# Altium schematic symbol library Power_Management.SchLib: 218 symbols (part 2 of 3)
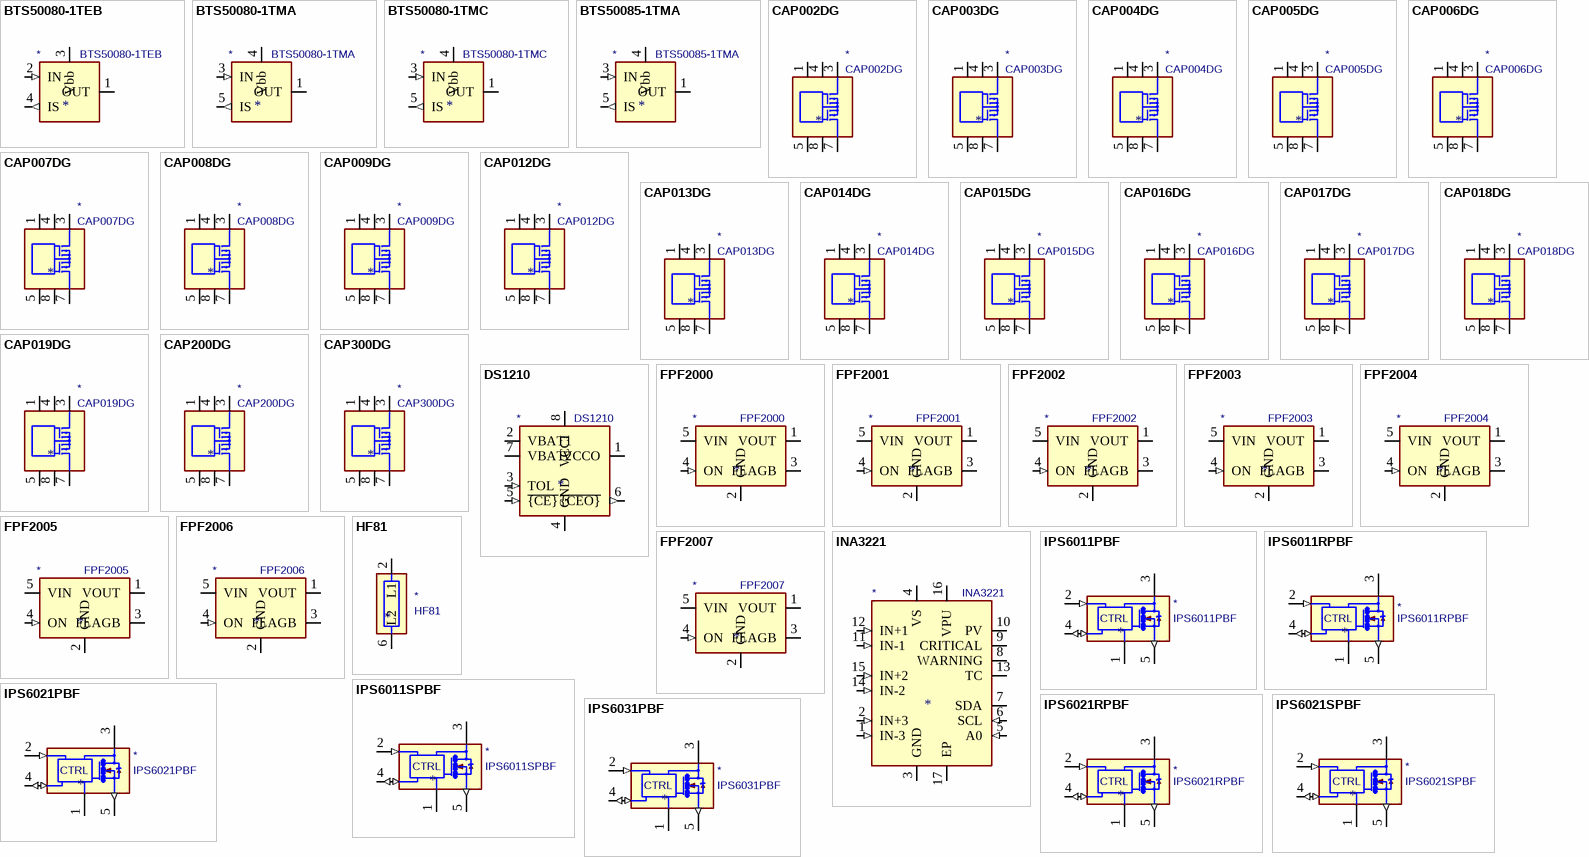
[diagram p6: symbols BTS50080-1TEB to IPS6031PBF]

## IPS6021RPBF
designator *  value IPS6021RPBF
ki_keywords: Intelligent Power Switch High Side MOSFET; ki_description: 39V, 32A, Intelligent Power Switch High Side, D-PAK 5pin; ki_fp_filters: TO?252*; Footprint: Package_TO_SOT_SMD:TO-252-5_TabPin3; Supplier: http://www.irf.com/product-info/datasheets/data/ips6021pbf.pdf
footprint TO-252-5_TabPin3
pins: 1 GND (power), 2 IN (in), 3 VCC (power), 4 DG (io), 5 OUT (out)
text: CTRL

## IPS6021SPBF
designator *  value IPS6021SPBF
ki_keywords: Intelligent Power Switch High Side MOSFET; ki_description: 39V, 32A, Intelligent Power Switch High Side, D2-PAK 5pin; ki_fp_filters: TO?263*; Footprint: Package_TO_SOT_SMD:TO-263-5_TabPin3; Supplier: http://www.irf.com/product-info/datasheets/data/ips6021pbf.pdf
footprint TO-263-5_TabPin3
pins: 1 GND (power), 2 IN (in), 3 VCC (power), 4 DG (io), 5 OUT (out)
text: CTRL

## IPS6031PBF
designator *  value IPS6031PBF
ki_keywords: Intelligent Power Switch High Side MOSFET; ki_description: 39V, 16A, Intelligent Power Switch High Side, TO-220-5; ki_fp_filters: TO?220*; Footprint: Package_TO_SOT_THT:TO-220-5_Vertical; Supplier: http://www.irf.com/product-info/datasheets/data/ips6031pbf.pdf
footprint TO-220-5_Vertical
pins: 1 GND (power), 2 IN (in), 3 VCC (power), 4 DG (io), 5 OUT (out)
text: CTRL

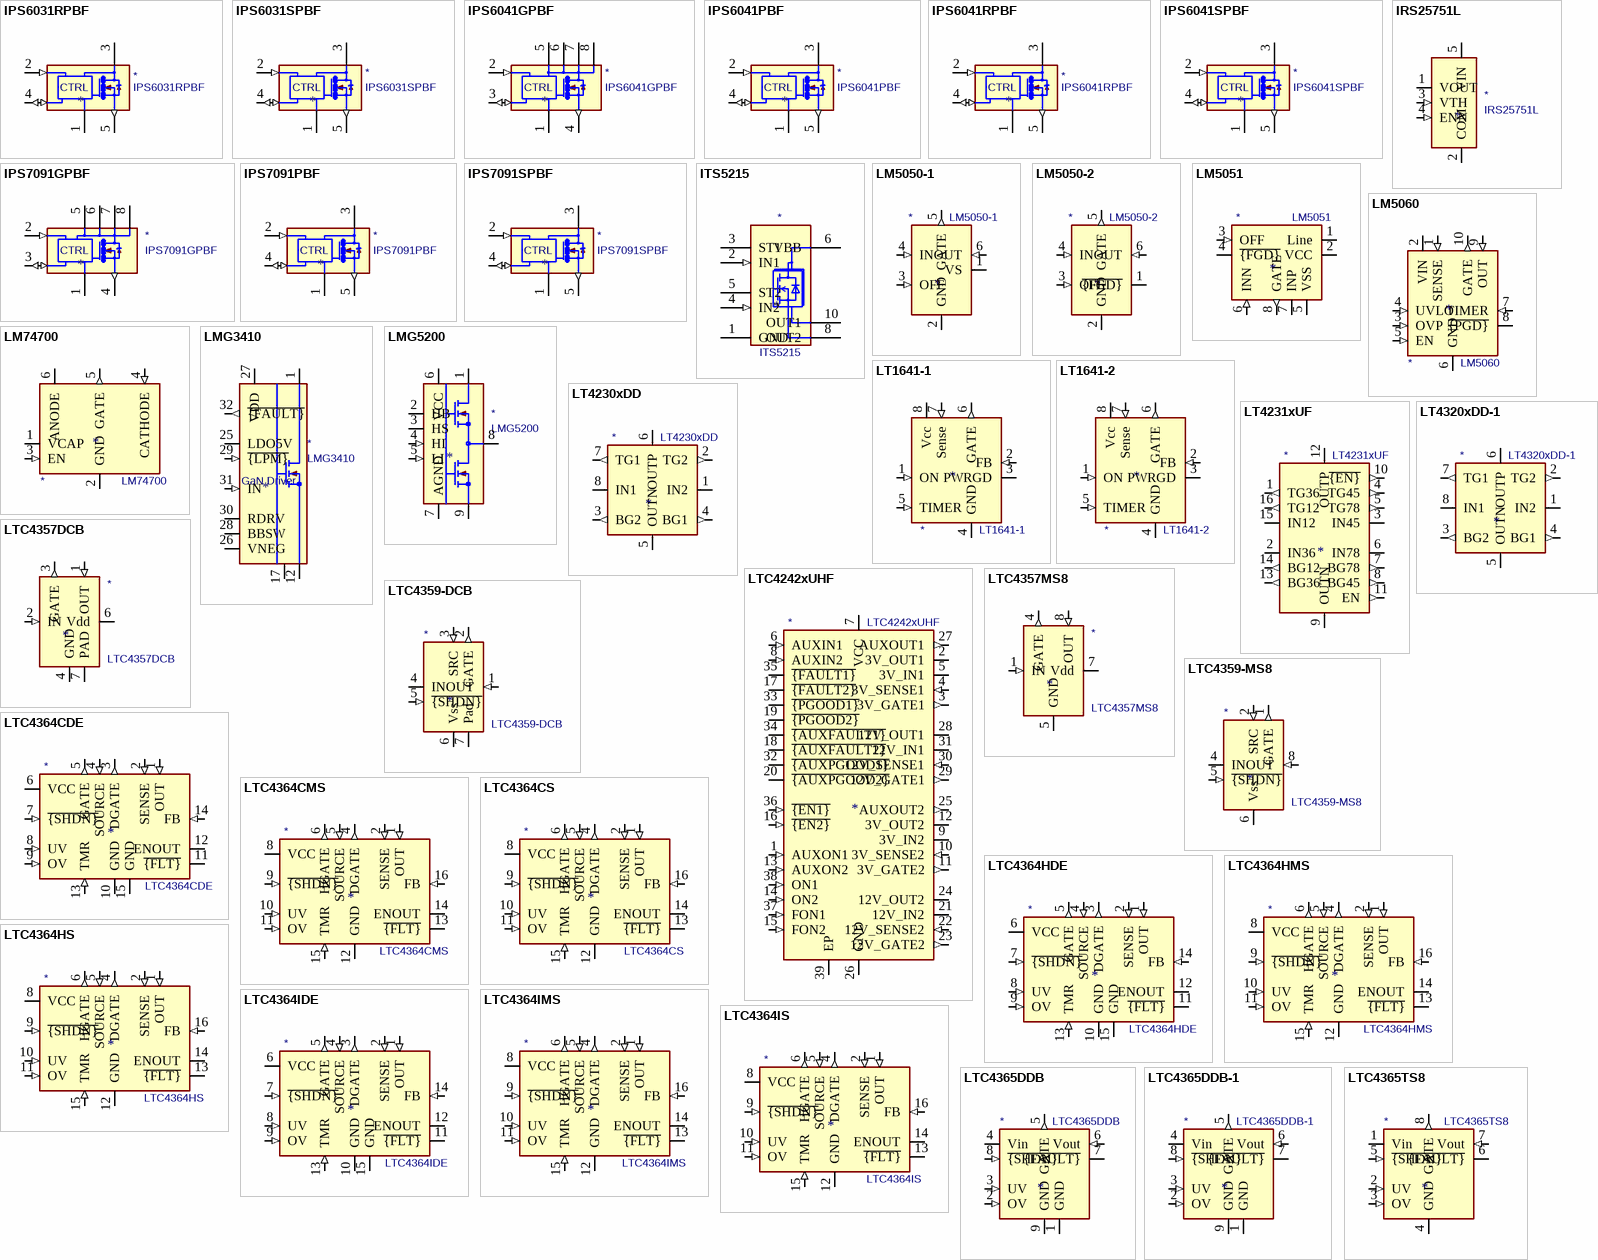
[diagram p3: symbols IPS6031RPBF to LTC4365TS8]

## IPS6031RPBF
designator *  value IPS6031RPBF
ki_keywords: Intelligent Power Switch High Side MOSFET; ki_description: 39V, 16A, Intelligent Power Switch High Side, D-PAK 5pin; ki_fp_filters: TO?252*; Footprint: Package_TO_SOT_SMD:TO-252-5_TabPin3; Supplier: http://www.irf.com/product-info/datasheets/data/ips6031pbf.pdf
footprint TO-252-5_TabPin3
pins: 1 GND (power), 2 IN (in), 3 VCC (power), 4 DG (io), 5 OUT (out)
text: CTRL

## IPS6031SPBF
designator *  value IPS6031SPBF
ki_keywords: Intelligent Power Switch High Side MOSFET; ki_description: 39V, 16A, Intelligent Power Switch High Side, D2-PAK 5pin; ki_fp_filters: TO?263*; Footprint: Package_TO_SOT_SMD:TO-263-5_TabPin3; Supplier: http://www.irf.com/product-info/datasheets/data/ips6031pbf.pdf
footprint TO-263-5_TabPin3
pins: 1 GND (power), 2 IN (in), 3 VCC (power), 4 DG (io), 5 OUT (out)
text: CTRL

## IPS6041GPBF
designator *  value IPS6041GPBF
ki_keywords: Intelligent Power Switch High Side MOSFET; ki_description: 39V, 5A, Intelligent Power Switch High Side, SO-8; ki_fp_filters: SOIC*3.9x4.9mm*P1.27mm*; Footprint: Package_SO:SOIC-8_3.9x4.9mm_P1.27mm; Supplier: http://www.irf.com/product-info/datasheets/data/ips6041pbf.pdf
footprint SOIC-8_3.9x4.9mm_P1.27mm
pins: 1 GND (power), 2 IN (in), 3 DG (io), 4 OUT (out), 5 VCC (power), 6 (power), 7 (power), 8 (power)
text: CTRL

## IPS6041PBF
designator *  value IPS6041PBF
ki_keywords: Intelligent Power Switch High Side MOSFET; ki_description: 39V, 5A, Intelligent Power Switch High Side, TO-220; ki_fp_filters: TO?220*; Footprint: Package_TO_SOT_THT:TO-220-5_Vertical; Supplier: http://www.irf.com/product-info/datasheets/data/ips6041pbf.pdf
footprint TO-220-5_Vertical
pins: 1 GND (power), 2 IN (in), 3 VCC (power), 4 DG (io), 5 OUT (out)
text: CTRL

## IPS6041RPBF
designator *  value IPS6041RPBF
ki_keywords: Intelligent Power Switch High Side MOSFET; ki_description: 39V, 5A, Intelligent Power Switch High Side, DPAK 5pin; ki_fp_filters: TO?252*; Footprint: Package_TO_SOT_SMD:TO-252-5_TabPin3; Supplier: http://www.irf.com/product-info/datasheets/data/ips6041pbf.pdf
footprint TO-252-5_TabPin3
pins: 1 GND (power), 2 IN (in), 3 VCC (power), 4 DG (io), 5 OUT (out)
text: CTRL

## IPS6041SPBF
designator *  value IPS6041SPBF
ki_keywords: Intelligent Power Switch High Side MOSFET; ki_description: 39V, 5A, Intelligent Power Switch High Side, D2PAK 5pin; ki_fp_filters: TO?263*; Footprint: Package_TO_SOT_SMD:TO-263-5_TabPin3; Supplier: http://www.irf.com/product-info/datasheets/data/ips6041pbf.pdf
footprint TO-263-5_TabPin3
pins: 1 GND (power), 2 IN (in), 3 VCC (power), 4 DG (io), 5 OUT (out)
text: CTRL

## IPS7091GPBF
designator *  value IPS7091GPBF
ki_keywords: Intelligent Power Switch High Side MOSFET; ki_description: 70V, 5A, Intelligent Power Switch High Side, D2-PAK 5pin; ki_fp_filters: SOIC*3.9x4.9mm*P1.27mm*; Footprint: Package_SO:SOIC-8_3.9x4.9mm_P1.27mm; Supplier: http://www.irf.com/product-info/datasheets/data/ips7091.pdf
footprint SOIC-8_3.9x4.9mm_P1.27mm
pins: 1 GND (power), 2 IN (in), 3 DG (io), 4 OUT (out), 5 VCC (power), 6 (power), 7 (power), 8 (power)
text: CTRL

## IPS7091PBF
designator *  value IPS7091PBF
ki_keywords: Intelligent Power Switch High Side MOSFET; ki_description: 70V, 5A, Intelligent Power Switch High Side, TO-220-5; ki_fp_filters: TO?220*; Footprint: Package_TO_SOT_THT:TO-220-5_Vertical; Supplier: http://www.irf.com/product-info/datasheets/data/ips7091.pdf
footprint TO-220-5_Vertical
pins: 1 GND (power), 2 IN (in), 3 VCC (power), 4 DG (io), 5 OUT (out)
text: CTRL

## IPS7091SPBF
designator *  value IPS7091SPBF
ki_keywords: Intelligent Power Switch High Side MOSFET; ki_description: 70V, 5A, Intelligent Power Switch High Side, D2-PAK 5pin; ki_fp_filters: TO?263*; Footprint: Package_TO_SOT_SMD:TO-263-5_TabPin3; Supplier: http://www.irf.com/product-info/datasheets/data/ips7091.pdf
footprint TO-263-5_TabPin3
pins: 1 GND (power), 2 IN (in), 3 VCC (power), 4 DG (io), 5 OUT (out)
text: CTRL

## IRS25751L
designator *  value IRS25751L
ki_keywords: start up; ki_description: High-Voltage Start-Up IC, 480V, SOT-23-5; ki_fp_filters: SOT?23*; Footprint: Package_TO_SOT_SMD:SOT-23-5; Supplier: https://www.infineon.com/dgdl/irs25751lpbf.pdf?fileId=5546d462533600a40153567b31da2837
footprint SOT-23-5
pins: 1 VOUT (power), 2 COM (power), 3 VTH (in), 4 ENN (in), 5 VIN (power)

## ITS5215
designator *  value ITS5215
ki_keywords: High_Side_Switch Power; ki_description: Smart Dual Channel High Side Powertrain Switch (90mOhm); ki_fp_filters: *PG?DSO*; Footprint: Package_SO:Infineon_PG-DSO-12-9_ThermalVias; Supplier: http://www.infineon.com/dgdl/Infineon-ITS5215L-DS-v01_01-en.pdf?fileId=db3a304412b407950112b428dba73e98
footprint Infineon_PG-DSO-12-9_ThermalVias
pins: 1 GND (power), 2 IN1 (in), 3 ST1 (oc), 4 IN2 (in), 5 ST2 (oc), 6 VBB (power), 7 NC (in) hidden, 8 OUT2 (oe), 9 NC (in) hidden, 10 OUT1 (oe), 11 NC (in) hidden, 12 VBB hidden, 13 VBB hidden

## LM5050-1
designator *  value LM5050-1
ki_keywords: positive high-side or-ing ideal-diode; ki_description: High side OR-ing FET controller, 5V to 75V operation, TSOT-23-6; ki_fp_filters: TSOT?23*; Footprint: Package_TO_SOT_SMD:TSOT-23-6; Supplier: http://www.ti.com/lit/ds/symlink/lm5050-1-q1.pdf
footprint TSOT-23-6
pins: 1 VS, 2 GND (power), 3 OFF (in), 4 IN (in), 5 GATE (out), 6 OUT (in)

## LM5050-2
designator *  value LM5050-2
ki_keywords: positive high-side or-ing ideal-diode; ki_description: High side OR-ing FET controller, 6V to 75V operation, TSOT-23-6; ki_fp_filters: TSOT?23*; Footprint: Package_TO_SOT_SMD:TSOT-23-6; Supplier: http://www.ti.com/lit/ds/symlink/lm5050-2.pdf
footprint TSOT-23-6
pins: 1 ~{{FGD}} (oc), 2 GND (power), 3 OFF (in), 4 IN (in), 5 GATE (out), 6 OUT (in)

## LM5051
designator *  value LM5051
ki_keywords: negative low-side or-ing ideal-diode; ki_description: Low side OR-ing FET controller, -6V to -100V operation; ki_fp_filters: SOIC*3.9x4.9mm*P1.27mm*; Footprint: Package_SO:SOIC-8_3.9x4.9mm_P1.27mm; Supplier: http://www.ti.com/lit/ds/symlink/lm5051.pdf
footprint SOIC-8_3.9x4.9mm_P1.27mm
pins: 1 Line (power), 2 VCC, 3 OFF (in), 4 ~{{FGD}} (oc), 5 VSS (power), 6 INN (in), 7 INP (power), 8 GATE (out)

## LM5060
designator *  value LM5060
ki_keywords: high-voltage mosfet-driver hot-swap; ki_description: High side protection controller, +5.5V to +65V operation, VSSOP-10 package; ki_fp_filters: *SOP*3x3mm*P0.5mm*; Footprint: Package_SO:MSOP-10_3x3mm_P0.5mm; Supplier: http://www.ti.com/lit/ds/symlink/lm5060.pdf
footprint MSOP-10_3x3mm_P0.5mm
pins: 1 SENSE (in), 2 VIN (power), 3 OVP (in), 4 UVLO (in), 5 EN (in), 6 GND (power), 7 TIMER (in), 8 ~{{PGD}} (oc), 9 OUT (in), 10 GATE (out)

## LM74700
designator *  value LM74700
ki_keywords: ideal-diode or-ing; ki_description: Low Iq reverse battery protection ideal diode controller, SOT-23-6; ki_fp_filters: SOT?23*; Footprint: Package_TO_SOT_SMD:SOT-23-6; Supplier: http://www.ti.com/lit/gpn/LM74700-Q1
footprint SOT-23-6
pins: 1 VCAP, 2 GND (power), 3 EN (in), 4 CATHODE (in), 5 GATE (out), 6 ANODE (power)

## LMG3410
designator *  value LMG3410
ki_keywords: N-Channel GaN MOSFET; ki_description: 600-V 12-A Integrated GaN Power Stage, RWH0032A; ki_fp_filters: Texas*RWH0032A*; Footprint: Package_DFN_QFN:Texas_RWH0032A_ThermalVias; Supplier: http://www.ti.com/lit/ds/snosd10c/snosd10c.pdf
footprint Texas_RWH0032A_ThermalVias
pins: 1, 2 hidden, 3 hidden, 4 hidden, 5 hidden, 6 hidden, 7 hidden, 8 hidden, 9 hidden, 10 hidden, 11 hidden, 12, 13 hidden, 14 hidden, 15 hidden, 16 hidden, 17, 18 hidden, 19 hidden, 20 hidden, 21 hidden, 22 hidden, 23 hidden, 24 hidden, 25 LDO5V (power), 26 VNEG (power), 27 VDD (power), 28 BBSW, 29 ~{{LPM}} (in), 30 RDRV, 31 IN (in), 32 ~{{FAULT}} (out), 33 hidden
text: GaN Driver

## LMG5200
designator *  value LMG5200
ki_keywords: Dual N-Channel GaN MOSFET; ki_description: 80-V, 10-A GaN Half-Bridge Power Stage, MOF0009A; ki_fp_filters: Texas*MOF0009A*; Footprint: Package_DFN_QFN:Texas_MOF0009A; Supplier: http://www.ti.com/lit/ds/symlink/lmg5200.pdf
footprint Texas_MOF0009A
pins: 1, 2 HB, 3 HS, 4 HI (in), 5 LI (in), 6 VCC (power), 7 AGND (power), 8, 9

## LT1641-1
designator *  value LT1641-1
ki_keywords: high-voltage hot-swap; ki_description: High voltage hot swap controller, +9V to +80V operation, with latching feature; ki_fp_filters: SOIC*3.9x4.9mm*P1.27mm*; Footprint: Package_SO:SOIC-8_3.9x4.9mm_P1.27mm; Supplier: https://www.analog.com/media/en/technical-documentation/data-sheets/164112fc.pdf
footprint SOIC-8_3.9x4.9mm_P1.27mm
pins: 1 ON (in), 2 FB (in), 3 PWRGD (oc), 4 GND (power), 5 TIMER (in), 6 GATE (out), 7 Sense (in), 8 Vcc (power)

## LT1641-2
designator *  value LT1641-2
ki_keywords: high-voltage hot-swap; ki_description: High voltage hot swap controller, +9V to +80V operation, with auto-retry feature; ki_fp_filters: SOIC*3.9x4.9mm*P1.27mm*; Footprint: Package_SO:SOIC-8_3.9x4.9mm_P1.27mm; Supplier: https://www.analog.com/media/en/technical-documentation/data-sheets/164112fc.pdf
footprint SOIC-8_3.9x4.9mm_P1.27mm
pins: 1 ON (in), 2 FB (in), 3 PWRGD (oc), 4 GND (power), 5 TIMER (in), 6 GATE (out), 7 Sense (in), 8 Vcc (power)

## LT4230xDD
designator *  value LT4230xDD
ki_keywords: diode bridge replacement; ki_description: Ideal Diode Bridge Controller, DC to 60Hz, DFN-8; ki_fp_filters: DFN*1EP*3x3mm*P0.5mm*; Footprint: Package_DFN_QFN:DFN-8-1EP_3x3mm_P0.5mm_EP1.65x2.38mm; Supplier: https://www.analog.com/media/en/technical-documentation/data-sheets/4320fb.pdf
footprint DFN-8-1EP_3x3mm_P0.5mm_EP1.65x2.38mm
pins: 1 IN2 (power), 2 TG2 (out), 3 BG2 (out), 4 BG1 (out), 5 OUTN (power), 6 OUTP (power), 7 TG1 (out), 8 IN1 (power), 9 OUTN hidden

## LT4231xUF
designator *  value LT4231xUF
ki_keywords: LTPoE++ dual diode bridge replacement; ki_description: PoE Ideal Diode Bridge Controller, QFN-16; ki_fp_filters: QFN*1EP*4x4mm*P0.65mm*; Footprint: Package_DFN_QFN:QFN-16-1EP_4x4mm_P0.65mm_EP2.15x2.15mm; Supplier: https://www.analog.com/media/en/technical-documentation/data-sheets/4321f.pdf
footprint QFN-16-1EP_4x4mm_P0.65mm_EP2.15x2.15mm
pins: 1 TG36 (out), 2 IN36 (power), 3 IN45 (power), 4 TG45 (out), 5 TG78 (out), 6 IN78 (power), 7 BG78 (out), 8 BG45 (out), 9 OUTN (power), 10 ~{{EN}} (out), 11 EN (out), 12 OUTP (power), 13 BG36 (out), 14 BG12 (out), 15 IN12 (power), 16 TG12 (out), 17 OUTN hidden

## LT4320xDD-1
designator *  value LT4320xDD-1
ki_keywords: diode bridge replacement; ki_description: Ideal Diode Bridge Controller, DC to 600Hz, DFN-8; ki_fp_filters: DFN*1EP*3x3mm*P0.5mm*; Footprint: Package_DFN_QFN:DFN-8-1EP_3x3mm_P0.5mm_EP1.65x2.38mm; Supplier: https://www.analog.com/media/en/technical-documentation/data-sheets/4320fb.pdf
footprint DFN-8-1EP_3x3mm_P0.5mm_EP1.65x2.38mm
pins: 1 IN2 (power), 2 TG2 (out), 3 BG2 (out), 4 BG1 (out), 5 OUTN (power), 6 OUTP (power), 7 TG1 (out), 8 IN1 (power), 9 OUTN hidden

## LTC4242xUHF
designator *  value LTC4242xUHF
ki_keywords: Dual-Slot PCIe; ki_description: Hot-Swap Power Controller, QFN-38; ki_fp_filters: QFN*1EP*5x7mm*P0.5mm*; Footprint: Package_DFN_QFN:QFN-38-1EP_5x7mm_P0.5mm_EP3.15x5.15mm; Supplier: https://www.analog.com/media/en/technical-documentation/data-sheets/4242f.pdf
footprint QFN-38-1EP_5x7mm_P0.5mm_EP3.15x5.15mm
pins: 1 AUXON1 (in), 2 3V_OUT1 (oc), 3 3V_GATE1 (out), 4 3V_SENSE1 (in), 5 3V_IN1 (power), 6 AUXIN1 (in), 7 VCC (power), 8 AUXIN2 (in), 9 3V_IN2 (power), 10 3V_SENSE2 (in), 11 3V_GATE2 (out), 12 3V_OUT2 (oc), 13 AUXON2 (in), 14 ON2 (in), 15 FON2 (in), 16 ~{{EN2}} (in), 17 ~{{FAULT2}} (oc), 18 ~{{AUXFAULT2}} (oc), 19 ~{{PGOOD2}} (oc), 20 ~{{AUXPGOOD2}} (oc), 21 12V_IN2 (power), 22 12V_SENSE2 (in), 23 12V_GATE2 (out), 24 12V_OUT2 (oc), 25 AUXOUT2 (out), 26 GND (power), 27 AUXOUT1 (out), 28 12V_OUT1 (oc), 29 12V_GATE1 (out), 30 12V_SENSE1 (in), 31 12V_IN1 (power), 32 ~{{AUXPGOOD1}} (oc), 33 ~{{PGOOD1}} (oc), 34 ~{{AUXFAULT1}} (oc), 35 ~{{FAULT1}} (oc), 36 ~{{EN1}} (in), 37 FON1 (in), 38 ON1 (in), 39 EP (power)

## LTC4357DCB
designator *  value LTC4357DCB
ki_keywords: ideal-diode or-ing; ki_description: Ideal diode controller, 9-80V operation, DFN-6 package; ki_fp_filters: DFN*1EP*3.2mm*P0.5mm*; Supplier: https://www.analog.com/media/en/technical-documentation/data-sheets/4357fd.pdf
pins: 1 OUT (in), 2 IN (in), 3 GATE (out), 4 GND (power), 5 NC (in) hidden, 6 Vdd (power), 7 PAD (power)

## LTC4357MS8
designator *  value LTC4357MS8
ki_keywords: ideal-diode or-ing; ki_description: Ideal diode controller, 9-80V operation, MSOP-8 package; ki_fp_filters: MSOP*3x3mm*P0.65mm*; Footprint: Package_SO:MSOP-8_3x3mm_P0.65mm; Supplier: https://www.analog.com/media/en/technical-documentation/data-sheets/4357fd.pdf
footprint MSOP-8_3x3mm_P0.65mm
pins: 1 IN (in), 2 NC (in) hidden, 3 NC (in) hidden, 4 GATE (out), 5 GND (power), 6 NC (in) hidden, 7 Vdd (power), 8 OUT (in)

## LTC4359-DCB
designator *  value LTC4359-DCB
ki_keywords: ideal-diode or-ing reverse-protection; ki_description: Ideal diode controller with reverse input protection, DFN-6 package; ki_fp_filters: DFN*1EP*3x2mm*P0.65mm*; Supplier: https://www.analog.com/media/en/technical-documentation/data-sheets/ltc4359.pdf
pins: 1 OUT (in), 2 GATE (out), 3 SRC (in), 4 IN (power), 5 ~{{SHDN}} (in), 6 Vss (power), 7 Pad (power)

## LTC4359-MS8
designator *  value LTC4359-MS8
ki_keywords: ideal-diode or-ing reverse-protection; ki_description: Ideal diode controller with reverse input protection, MSOP-8 package; ki_fp_filters: MSOP*3x3mm*P0.65mm*; Footprint: Package_SO:MSOP-8_3x3mm_P0.65mm; Supplier: https://www.analog.com/media/en/technical-documentation/data-sheets/ltc4359.pdf
footprint MSOP-8_3x3mm_P0.65mm
pins: 1 GATE (out), 2 SRC (in), 3 NC (in) hidden, 4 IN (power), 5 ~{{SHDN}} (in), 6 Vss (power), 7 NC (in) hidden, 8 OUT (in)

## LTC4364CDE
designator *  value LTC4364CDE
ki_keywords: ideal-diode or-ing reverse-protection undervoltage overvoltage surge-stopper; ki_description: Surge stopper with ideal diode, UV and OV protection, -40V to +80V operation, DFN-14 package, 0°C to +40°C; ki_fp_filters: DFN*3x4mm*P0.5mm*; Footprint: Package_DFN_QFN:DFN-14-1EP_3x4mm_P0.5mm_EP1.7x3.3mm; Supplier: https://www.analog.com/media/en/technical-documentation/data-sheets/436412f.pdf
footprint DFN-14-1EP_3x4mm_P0.5mm_EP1.7x3.3mm
pins: 1 OUT (in), 2 SENSE (in), 3 DGATE (out), 4 SOURCE (in), 5 GATE (out), 6 VCC (power), 7 ~{{SHDN}} (in), 8 UV (in), 9 OV (in), 10 GND (power), 11 ~{{FLT}} (oc), 12 ENOUT (oc), 13 TMR (in), 14 FB (in), 15 GND (power)

## LTC4364CMS
designator *  value LTC4364CMS
ki_keywords: ideal-diode or-ing reverse-protection undervoltage overvoltage surge-stopper; ki_description: Surge stopper with ideal diode, UV and OV protection, -40V to +80V operation, MSOP-16 package, 0°C to +40°C; ki_fp_filters: MSOP*3x4mm*P0.5mm*; Footprint: Package_SO:MSOP-16_3x4mm_P0.5mm; Supplier: https://www.analog.com/media/en/technical-documentation/data-sheets/436412f.pdf
footprint MSOP-16_3x4mm_P0.5mm
pins: 1 OUT (in), 2 SENSE (in), 3 NC (in) hidden, 4 DGATE (out), 5 SOURCE (in), 6 HGATE (out), 7 NC (in) hidden, 8 VCC (power), 9 ~{{SHDN}} (in), 10 UV (in), 11 OV (in), 12 GND (power), 13 ~{{FLT}} (oc), 14 ENOUT (oc), 15 TMR (in), 16 FB (in)

## LTC4364CS
designator *  value LTC4364CS
ki_keywords: ideal-diode or-ing reverse-protection undervoltage overvoltage surge-stopper; ki_description: Surge stopper with ideal diode, UV and OV protection -40V to +80V in SOIC-16 package, 0°C to +40°C; ki_fp_filters: SOIC*3.9x9.9mm*P1.27mm*; Footprint: Package_SO:SOIC-16_3.9x9.9mm_P1.27mm; Supplier: https://www.analog.com/media/en/technical-documentation/data-sheets/436412f.pdf
footprint SOIC-16_3.9x9.9mm_P1.27mm
pins: 1 OUT (in), 2 SENSE (in), 3 NC (in) hidden, 4 DGATE (out), 5 SOURCE (in), 6 HGATE (out), 7 NC (in) hidden, 8 VCC (power), 9 ~{{SHDN}} (in), 10 UV (in), 11 OV (in), 12 GND (power), 13 ~{{FLT}} (oc), 14 ENOUT (oc), 15 TMR (in), 16 FB (in)

## LTC4364HDE
designator *  value LTC4364HDE
ki_keywords: surge overvoltage undervoltage reverse-polarity protection diode ORing MOSFET driver; ki_description: Surge stopper with ideal diode, UV and OV protection -40V to +80V in DFN-14 package, -40°C to +125°C; ki_fp_filters: DFN*3x4mm*P0.5mm*; Footprint: Package_DFN_QFN:DFN-14-1EP_3x4mm_P0.5mm_EP1.7x3.3mm; Supplier: https://www.analog.com/media/en/technical-documentation/data-sheets/436412f.pdf
footprint DFN-14-1EP_3x4mm_P0.5mm_EP1.7x3.3mm
pins: 1 OUT (in), 2 SENSE (in), 3 DGATE (out), 4 SOURCE (in), 5 GATE (out), 6 VCC (power), 7 ~{{SHDN}} (in), 8 UV (in), 9 OV (in), 10 GND (power), 11 ~{{FLT}} (oc), 12 ENOUT (oc), 13 TMR (in), 14 FB (in), 15 GND (power)

## LTC4364HMS
designator *  value LTC4364HMS
ki_keywords: surge overvoltage undervoltage reverse-polarity protection diode ORing MOSFET driver; ki_description: Surge stopper with ideal diode, UV and OV protection -40V to +80V in MSOP-16 package, -40°C to +125°C; ki_fp_filters: MSOP*3x4mm*P0.5mm*; Footprint: Package_SO:MSOP-16_3x4mm_P0.5mm; Supplier: https://www.analog.com/media/en/technical-documentation/data-sheets/436412f.pdf
footprint MSOP-16_3x4mm_P0.5mm
pins: 1 OUT (in), 2 SENSE (in), 3 NC (in) hidden, 4 DGATE (out), 5 SOURCE (in), 6 HGATE (out), 7 NC (in) hidden, 8 VCC (power), 9 ~{{SHDN}} (in), 10 UV (in), 11 OV (in), 12 GND (power), 13 ~{{FLT}} (oc), 14 ENOUT (oc), 15 TMR (in), 16 FB (in)

## LTC4364HS
designator *  value LTC4364HS
ki_keywords: surge overvoltage undervoltage reverse-polarity protection diode ORing MOSFET driver; ki_description: Surge stopper with ideal diode, UV and OV protection -40V to +80V in SOIC-16 package, -40°C to +125°C; ki_fp_filters: SOIC*3.9x9.9mm*P1.27mm*; Footprint: Package_SO:SOIC-16_3.9x9.9mm_P1.27mm; Supplier: https://www.analog.com/media/en/technical-documentation/data-sheets/436412f.pdf
footprint SOIC-16_3.9x9.9mm_P1.27mm
pins: 1 OUT (in), 2 SENSE (in), 3 NC (in) hidden, 4 DGATE (out), 5 SOURCE (in), 6 HGATE (out), 7 NC (in) hidden, 8 VCC (power), 9 ~{{SHDN}} (in), 10 UV (in), 11 OV (in), 12 GND (power), 13 ~{{FLT}} (oc), 14 ENOUT (oc), 15 TMR (in), 16 FB (in)

## LTC4364IDE
designator *  value LTC4364IDE
ki_keywords: surge overvoltage undervoltage reverse-polarity protection diode ORing MOSFET driver; ki_description: Surge stopper with ideal diode, UV and OV protection -40V to +80V in DFN-14 package, -40°C to +85°C; ki_fp_filters: DFN*3x4mm*P0.5mm*; Footprint: Package_DFN_QFN:DFN-14-1EP_3x4mm_P0.5mm_EP1.7x3.3mm; Supplier: https://www.analog.com/media/en/technical-documentation/data-sheets/436412f.pdf
footprint DFN-14-1EP_3x4mm_P0.5mm_EP1.7x3.3mm
pins: 1 OUT (in), 2 SENSE (in), 3 DGATE (out), 4 SOURCE (in), 5 GATE (out), 6 VCC (power), 7 ~{{SHDN}} (in), 8 UV (in), 9 OV (in), 10 GND (power), 11 ~{{FLT}} (oc), 12 ENOUT (oc), 13 TMR (in), 14 FB (in), 15 GND (power)

## LTC4364IMS
designator *  value LTC4364IMS
ki_keywords: surge overvoltage undervoltage reverse-polarity protection diode ORing MOSFET driver; ki_description: Surge stopper with ideal diode, UV and OV protection -40V to +80V in MSOP-16 package, -40°C to +85°C; ki_fp_filters: MSOP*3x4mm*P0.5mm*; Footprint: Package_SO:MSOP-16_3x4mm_P0.5mm; Supplier: https://www.analog.com/media/en/technical-documentation/data-sheets/436412f.pdf
footprint MSOP-16_3x4mm_P0.5mm
pins: 1 OUT (in), 2 SENSE (in), 3 NC (in) hidden, 4 DGATE (out), 5 SOURCE (in), 6 HGATE (out), 7 NC (in) hidden, 8 VCC (power), 9 ~{{SHDN}} (in), 10 UV (in), 11 OV (in), 12 GND (power), 13 ~{{FLT}} (oc), 14 ENOUT (oc), 15 TMR (in), 16 FB (in)

## LTC4364IS
designator *  value LTC4364IS
ki_keywords: surge overvoltage undervoltage reverse-polarity protection diode ORing MOSFET driver; ki_description: Surge stopper with ideal diode, UV and OV protection -40V to +80V in SOIC-16 package, -40°C to +85°C; ki_fp_filters: SOIC*3.9x9.9mm*P1.27mm*; Footprint: Package_SO:SOIC-16_3.9x9.9mm_P1.27mm; Supplier: https://www.analog.com/media/en/technical-documentation/data-sheets/436412f.pdf
footprint SOIC-16_3.9x9.9mm_P1.27mm
pins: 1 OUT (in), 2 SENSE (in), 3 NC (in) hidden, 4 DGATE (out), 5 SOURCE (in), 6 HGATE (out), 7 NC (in) hidden, 8 VCC (power), 9 ~{{SHDN}} (in), 10 UV (in), 11 OV (in), 12 GND (power), 13 ~{{FLT}} (oc), 14 ENOUT (oc), 15 TMR (in), 16 FB (in)

## LTC4365DDB
designator *  value LTC4365DDB
ki_keywords: overvoltage undervoltage reverse-polarity protection; ki_description: Overvoltage, Undervoltage and Reverse Supply Protection Controller, 3x2mm DFN-8 package, 50Hz/60Hz noise rejection; ki_fp_filters: DFN*1EP*2x3mm*P0.5mm*; Footprint: Package_DFN_QFN:DFN-8-1EP_2x3mm_P0.5mm_EP0.61x2.2mm; Supplier: https://www.analog.com/media/en/technical-documentation/data-sheets/4365fa.pdf
footprint DFN-8-1EP_2x3mm_P0.5mm_EP0.61x2.2mm
pins: 1 GND (power), 2 OV (in), 3 UV (in), 4 Vin (power), 5 GATE (out), 6 Vout (in), 7 ~{{FAULT}} (oc), 8 ~{{SHDN}} (in), 9 GND (power)

## LTC4365DDB-1
designator *  value LTC4365DDB-1
ki_keywords: overvoltage undervoltage reverse-polarity protection; ki_description: Overvoltage, Undervoltage and Reverse Supply Protection Controller, 3x2mm DFN-8 package, 1ms fault recovery; ki_fp_filters: DFN*1EP*2x3mm*P0.5mm*; Footprint: Package_DFN_QFN:DFN-8-1EP_2x3mm_P0.5mm_EP0.61x2.2mm; Supplier: https://www.analog.com/media/en/technical-documentation/data-sheets/4365fa.pdf
footprint DFN-8-1EP_2x3mm_P0.5mm_EP0.61x2.2mm
pins: 1 GND (power), 2 OV (in), 3 UV (in), 4 Vin (power), 5 GATE (out), 6 Vout (in), 7 ~{{FAULT}} (oc), 8 ~{{SHDN}} (in), 9 GND (power)

## LTC4365TS8
designator *  value LTC4365TS8
ki_keywords: overvoltage undervoltage reverse-polarity protection; ki_description: Overvoltage, Undervoltage and Reverse Supply Protection Controller, TSOT23-8 package, 50Hz/60Hz noise rejection; ki_fp_filters: *SOT?23*; Supplier: https://www.analog.com/media/en/technical-documentation/data-sheets/4365fa.pdf
pins: 1 Vin (power), 2 UV (in), 3 OV (in), 4 GND (power), 5 ~{{SHDN}} (in), 6 ~{{FAULT}} (oc), 7 Vout (in), 8 GATE (out)

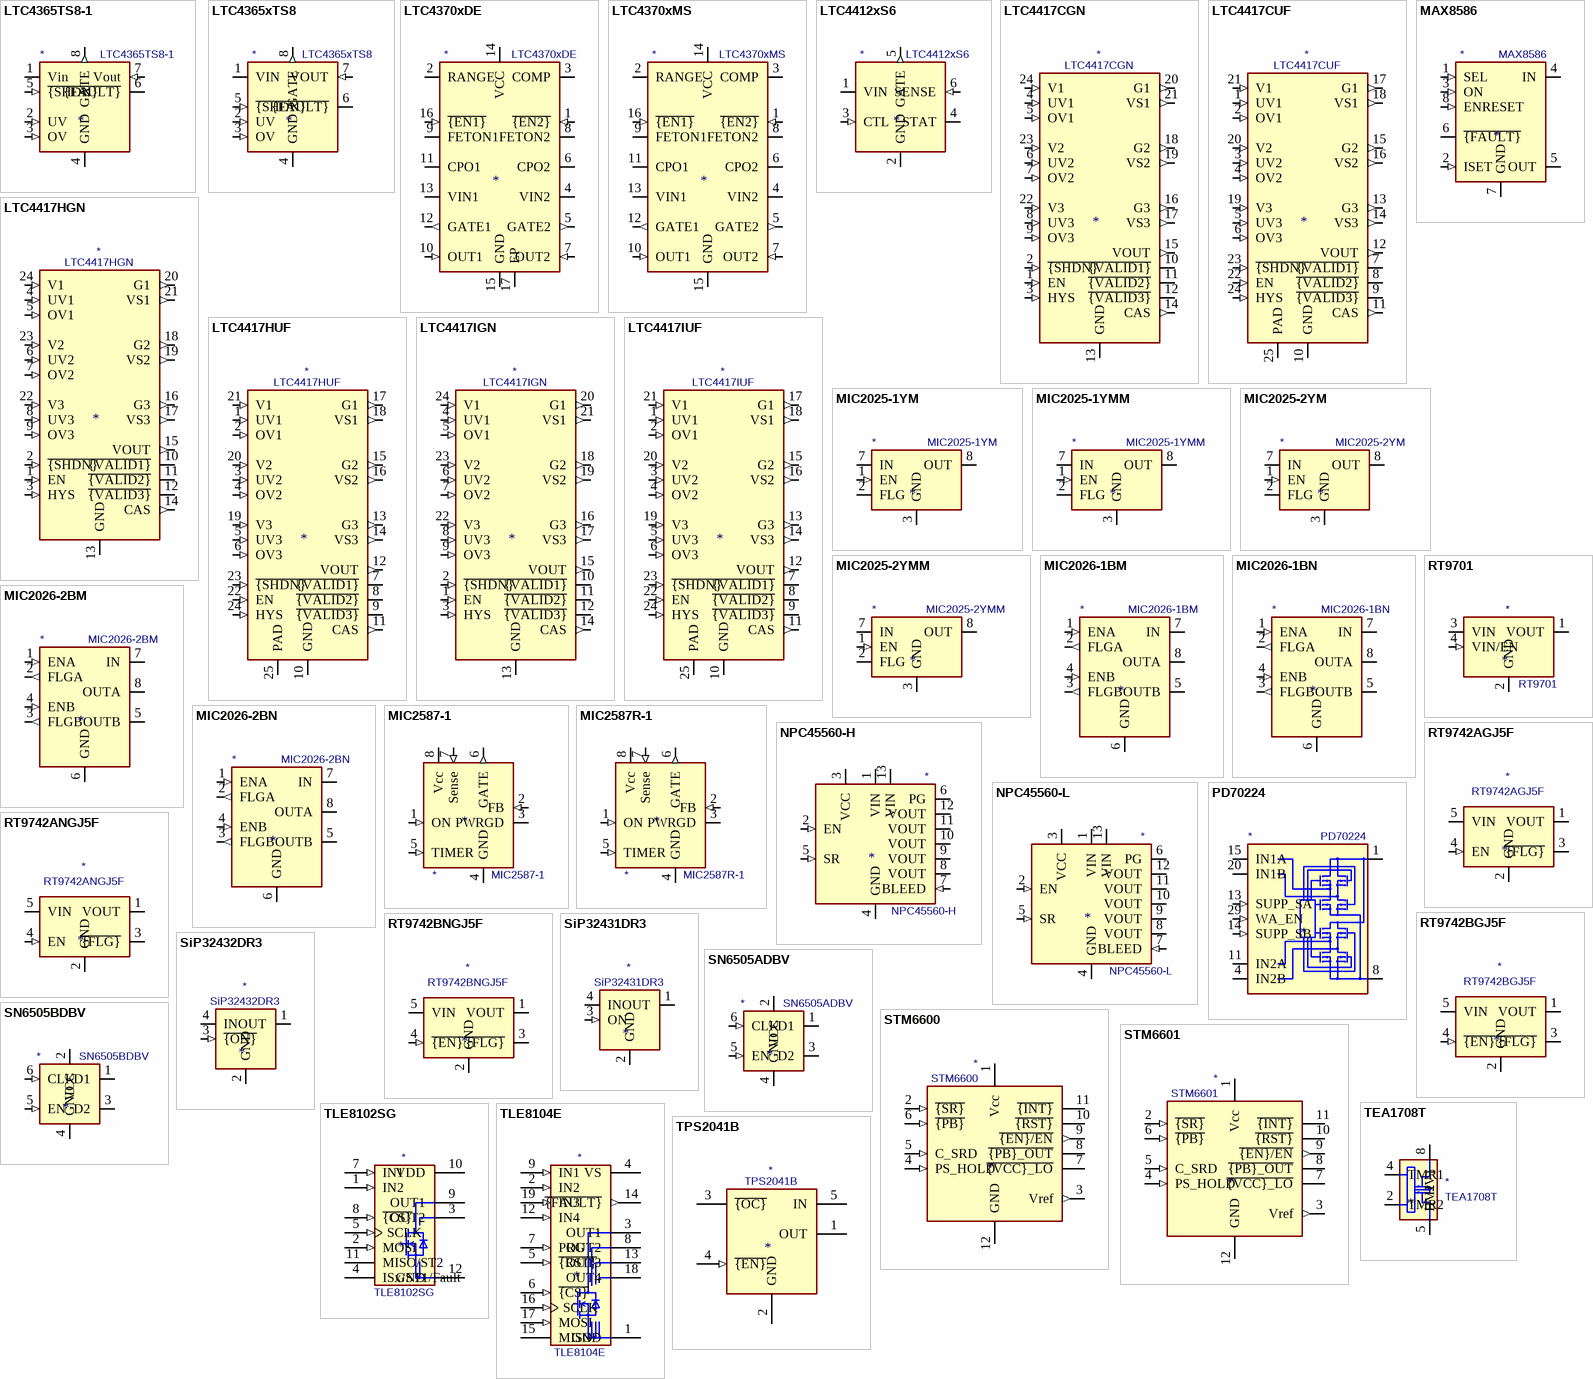
[diagram p4: symbols LTC4365TS8-1 to TPS2041B]

## LTC4365TS8-1
designator *  value LTC4365TS8-1
ki_keywords: overvoltage undervoltage reverse-polarity protection; ki_description: Overvoltage, Undervoltage and Reverse Supply Protection Controller, TSOT23-8 package, 1ms fault recovery; ki_fp_filters: *SOT?23*; Supplier: https://www.analog.com/media/en/technical-documentation/data-sheets/4365fa.pdf
pins: 1 Vin (power), 2 UV (in), 3 OV (in), 4 GND (power), 5 ~{{SHDN}} (in), 6 ~{{FAULT}} (oc), 7 Vout (in), 8 GATE (out)

## LTC4365xTS8
designator *  value LTC4365xTS8
ki_keywords: overvoltage undervoltage reverse-polarity protection; ki_description: Overvoltage, Undervoltage and Reverse Supply Protection Controller, 50Hz/60Hz noise rejection, TSOT-23-8; ki_fp_filters: TSOT?23*; Footprint: Package_TO_SOT_SMD:TSOT-23-8; Supplier: https://www.analog.com/media/en/technical-documentation/data-sheets/4365fa.pdf
footprint TSOT-23-8
pins: 1 VIN (power), 2 UV (in), 3 OV (in), 4 GND (power), 5 ~{{SHDN}} (in), 6 ~{{FAULT}} (oc), 7 VOUT (in), 8 GATE (out)

## LTC4370xDE
designator *  value LTC4370xDE
ki_keywords: ideal-diode or-ing current sharing load balancing; ki_description: OR Controller Current Sharing Controller N-Channel 2:1, DFN-16; ki_fp_filters: DFN*1EP*3x4mm*P0.45mm*; Footprint: Package_DFN_QFN:DFN-16-1EP_3x4mm_P0.45mm_EP1.7x3.3mm; Supplier: https://www.analog.com/media/en/technical-documentation/data-sheets/4370f.pdf
footprint DFN-16-1EP_3x4mm_P0.45mm_EP1.7x3.3mm
pins: 1 ~{{EN2}} (in), 2 RANGE, 3 COMP, 4 VIN2 (power), 5 GATE2 (out), 6 CPO2, 7 OUT2 (in), 8 FETON2 (oc), 9 FETON1 (oc), 10 OUT1 (in), 11 CPO1, 12 GATE1 (out), 13 VIN1 (power), 14 VCC (power), 15 GND (power), 16 ~{{EN1}} (in), 17 EP

## LTC4370xMS
designator *  value LTC4370xMS
ki_keywords: ideal-diode or-ing current sharing load balancing; ki_description: OR Controller Current Sharing Controller N-Channel 2:1, MSOP-16; ki_fp_filters: MSOP*3x4mm*P0.5mm*; Footprint: Package_SO:MSOP-16_3x4mm_P0.5mm; Supplier: https://www.analog.com/media/en/technical-documentation/data-sheets/4370f.pdf
footprint MSOP-16_3x4mm_P0.5mm
pins: 1 ~{{EN2}} (in), 2 RANGE, 3 COMP, 4 VIN2 (power), 5 GATE2 (out), 6 CPO2, 7 OUT2 (in), 8 FETON2 (oc), 9 FETON1 (oc), 10 OUT1 (in), 11 CPO1, 12 GATE1 (out), 13 VIN1 (power), 14 VCC (power), 15 GND (power), 16 ~{{EN1}} (in)

## LTC4412xS6
designator *  value LTC4412xS6
ki_keywords: ideal-diode or-ing; ki_description: Low Loss PowerPath Controller, TSOT-23-6; ki_fp_filters: TSOT?23*; Footprint: Package_TO_SOT_SMD:TSOT-23-6; Supplier: https://www.analog.com/media/en/technical-documentation/data-sheets/4412fb.pdf
footprint TSOT-23-6
pins: 1 VIN (power), 2 GND (power), 3 CTL (in), 4 STAT (oc), 5 GATE (out), 6 SENSE (in)

## LTC4417CGN
designator *  value LTC4417CGN
ki_keywords: switch power FET sequence; ki_description: Prioritized PowerPath Controller, Selects Highest Priority Supply from Three Inputs, SSOP; ki_fp_filters: SSOP-24*3.9x8.7mm*P0.635mm*; Footprint: Package_SO:SSOP-24_3.9x8.7mm_P0.635mm; Supplier: https://www.analog.com/media/en/technical-documentation/data-sheets/4417f.pdf
footprint SSOP-24_3.9x8.7mm_P0.635mm
pins: 1 EN (in), 2 ~{{SHDN}} (in), 3 HYS (in), 4 UV1 (in), 5 OV1 (in), 6 UV2 (in), 7 OV2 (in), 8 UV3 (in), 9 OV3 (in), 10 ~{{VALID1}} (oc), 11 ~{{VALID2}} (oc), 12 ~{{VALID3}} (oc), 13 GND (power), 14 CAS (out), 15 VOUT (out), 16 G3 (out), 17 VS3 (out), 18 G2 (out), 19 VS2 (out), 20 G1 (out), 21 VS1 (out), 22 V3 (in), 23 V2 (in), 24 V1 (in)

## LTC4417CUF
designator *  value LTC4417CUF
ki_keywords: switch power FET sequence; ki_description: Prioritized PowerPath Controller, Selects Highest Priority Supply from Three Inputs, QFN; ki_fp_filters: QFN*4x4mm*P0.5mm*; Footprint: Package_DFN_QFN:QFN-24-1EP_4x4mm_P0.5mm_EP2.6x2.6mm; Supplier: https://www.analog.com/media/en/technical-documentation/data-sheets/4417f.pdf
footprint QFN-24-1EP_4x4mm_P0.5mm_EP2.6x2.6mm
pins: 1 UV1 (in), 2 OV1 (in), 3 UV2 (in), 4 OV2 (in), 5 UV3 (in), 6 OV3 (in), 7 ~{{VALID1}} (oc), 8 ~{{VALID2}} (oc), 9 ~{{VALID3}} (oc), 10 GND (power), 11 CAS (out), 12 VOUT (out), 13 G3 (out), 14 VS3 (out), 15 G2 (out), 16 VS2 (out), 17 G1 (out), 18 VS1 (out), 19 V3 (in), 20 V2 (in), 21 V1 (in), 22 EN (in), 23 ~{{SHDN}} (in), 24 HYS (in), 25 PAD (power)

## LTC4417HGN
designator *  value LTC4417HGN
ki_keywords: switch power FET sequence; ki_description: Prioritized PowerPath Controller, Selects Highest Priority Supply from Three Inputs, –40°C to 125°C, SSOP; ki_fp_filters: SSOP-24*3.9x8.7mm*P0.635mm*; Footprint: Package_SO:SSOP-24_3.9x8.7mm_P0.635mm; Supplier: https://www.analog.com/media/en/technical-documentation/data-sheets/4417f.pdf
footprint SSOP-24_3.9x8.7mm_P0.635mm
pins: 1 EN (in), 2 ~{{SHDN}} (in), 3 HYS (in), 4 UV1 (in), 5 OV1 (in), 6 UV2 (in), 7 OV2 (in), 8 UV3 (in), 9 OV3 (in), 10 ~{{VALID1}} (oc), 11 ~{{VALID2}} (oc), 12 ~{{VALID3}} (oc), 13 GND (power), 14 CAS (out), 15 VOUT (out), 16 G3 (out), 17 VS3 (out), 18 G2 (out), 19 VS2 (out), 20 G1 (out), 21 VS1 (out), 22 V3 (in), 23 V2 (in), 24 V1 (in)

## LTC4417HUF
designator *  value LTC4417HUF
ki_keywords: switch power FET sequence; ki_description: Prioritized PowerPath Controller, Selects Highest Priority Supply from Three Inputs, –40°C to 125°C, QFN; ki_fp_filters: QFN*4x4mm*P0.5mm*; Footprint: Package_DFN_QFN:QFN-24-1EP_4x4mm_P0.5mm_EP2.6x2.6mm; Supplier: https://www.analog.com/media/en/technical-documentation/data-sheets/4417f.pdf
footprint QFN-24-1EP_4x4mm_P0.5mm_EP2.6x2.6mm
pins: 1 UV1 (in), 2 OV1 (in), 3 UV2 (in), 4 OV2 (in), 5 UV3 (in), 6 OV3 (in), 7 ~{{VALID1}} (oc), 8 ~{{VALID2}} (oc), 9 ~{{VALID3}} (oc), 10 GND (power), 11 CAS (out), 12 VOUT (out), 13 G3 (out), 14 VS3 (out), 15 G2 (out), 16 VS2 (out), 17 G1 (out), 18 VS1 (out), 19 V3 (in), 20 V2 (in), 21 V1 (in), 22 EN (in), 23 ~{{SHDN}} (in), 24 HYS (in), 25 PAD (power)

## LTC4417IGN
designator *  value LTC4417IGN
ki_keywords: switch power FET sequence; ki_description: Prioritized PowerPath Controller, Selects Highest Priority Supply from Three Inputs, –40°C to 85°C, SSOP; ki_fp_filters: SSOP-24*3.9x8.7mm*P0.635mm*; Footprint: Package_SO:SSOP-24_3.9x8.7mm_P0.635mm; Supplier: https://www.analog.com/media/en/technical-documentation/data-sheets/4417f.pdf
footprint SSOP-24_3.9x8.7mm_P0.635mm
pins: 1 EN (in), 2 ~{{SHDN}} (in), 3 HYS (in), 4 UV1 (in), 5 OV1 (in), 6 UV2 (in), 7 OV2 (in), 8 UV3 (in), 9 OV3 (in), 10 ~{{VALID1}} (oc), 11 ~{{VALID2}} (oc), 12 ~{{VALID3}} (oc), 13 GND (power), 14 CAS (out), 15 VOUT (out), 16 G3 (out), 17 VS3 (out), 18 G2 (out), 19 VS2 (out), 20 G1 (out), 21 VS1 (out), 22 V3 (in), 23 V2 (in), 24 V1 (in)

## LTC4417IUF
designator *  value LTC4417IUF
ki_keywords: switch power FET sequence; ki_description: Prioritized PowerPath Controller, Selects Highest Priority Supply from Three Inputs, –40°C to 85°C, QFN; ki_fp_filters: QFN*4x4mm*P0.5mm*; Footprint: Package_DFN_QFN:QFN-24-1EP_4x4mm_P0.5mm_EP2.6x2.6mm; Supplier: https://www.analog.com/media/en/technical-documentation/data-sheets/4417f.pdf
footprint QFN-24-1EP_4x4mm_P0.5mm_EP2.6x2.6mm
pins: 1 UV1 (in), 2 OV1 (in), 3 UV2 (in), 4 OV2 (in), 5 UV3 (in), 6 OV3 (in), 7 ~{{VALID1}} (oc), 8 ~{{VALID2}} (oc), 9 ~{{VALID3}} (oc), 10 GND (power), 11 CAS (out), 12 VOUT (out), 13 G3 (out), 14 VS3 (out), 15 G2 (out), 16 VS2 (out), 17 G1 (out), 18 VS1 (out), 19 V3 (in), 20 V2 (in), 21 V1 (in), 22 EN (in), 23 ~{{SHDN}} (in), 24 HYS (in), 25 PAD (power)

## MAX8586
designator *  value MAX8586
ki_keywords: 1-channel USB current limiting power switch; ki_description: Single 1.2A USB Current Limiting Switch; ki_fp_filters: DFN?8?1EP*3x3mm*P0.65mm*EP1.55x2.4mm*; Footprint: Package_DFN_QFN:DFN-8-1EP_3x3mm_P0.65mm_EP1.55x2.4mm; Supplier: https://datasheets.maximintegrated.com/en/ds/MAX8586.pdf
footprint DFN-8-1EP_3x3mm_P0.65mm_EP1.55x2.4mm
pins: 1 SEL (in), 2 ISET (in), 3 ON (in), 4 IN (power), 5 OUT (power), 6 ~{{FAULT}} (oc), 7 GND (power), 8 ENRESET (in), 9 GND hidden

## MIC2025-1YM
designator *  value MIC2025-1YM
ki_keywords: mosfet distribution; ki_description: Single-channel, high side, power distribution switch, 2.7V-5.5V, Active High Output, SOIC-8; ki_fp_filters: SOIC*3.9x4.9mm*P1.27mm*; Footprint: Package_SO:SOIC-8_3.9x4.9mm_P1.27mm; Supplier: https://ww1.microchip.com/downloads/en/DeviceDoc/MIC2025-2075-Single-Channel-Power-Distribution-Switch-DS20006030A.pdf
footprint SOIC-8_3.9x4.9mm_P1.27mm
pins: 1 EN (in), 2 FLG (oc), 3 GND (power), 4 NC (in) hidden, 5 NC (in) hidden, 6 OUT hidden, 7 IN (power), 8 OUT (power)

## MIC2025-1YMM
designator *  value MIC2025-1YMM
ki_keywords: mosfet distribution; ki_description: Single-channel, high side, power distribution switch, 2.7V-5.5V, Active High Output, MSOP-8; ki_fp_filters: MSOP*3x3mm*P0.65mm*; Footprint: Package_SO:MSOP-8_3x3mm_P0.65mm; Supplier: https://ww1.microchip.com/downloads/en/DeviceDoc/MIC2025-2075-Single-Channel-Power-Distribution-Switch-DS20006030A.pdf
footprint MSOP-8_3x3mm_P0.65mm
pins: 1 EN (in), 2 FLG (oc), 3 GND (power), 4 NC (in) hidden, 5 NC (in) hidden, 6 OUT hidden, 7 IN (power), 8 OUT (power)

## MIC2025-2YM
designator *  value MIC2025-2YM
ki_keywords: mosfet distribution; ki_description: Single-channel, high side, power distribution switch, 2.7V-5.5V, Active Low Output, SOIC-8; ki_fp_filters: SOIC*3.9x4.9mm*P1.27mm*; Footprint: Package_SO:SOIC-8_3.9x4.9mm_P1.27mm; Supplier: https://ww1.microchip.com/downloads/en/DeviceDoc/MIC2025-2075-Single-Channel-Power-Distribution-Switch-DS20006030A.pdf
footprint SOIC-8_3.9x4.9mm_P1.27mm
pins: 1 EN (in), 2 FLG (oc), 3 GND (power), 4 NC (in) hidden, 5 NC (in) hidden, 6 OUT hidden, 7 IN (power), 8 OUT (power)

## MIC2025-2YMM
designator *  value MIC2025-2YMM
ki_keywords: mosfet distribution; ki_description: Single-channel, high side, power distribution switch, 2.7V-5.5V, Active Low Output, MSOP-8; ki_fp_filters: MSOP*3x3mm*P0.65mm*; Footprint: Package_SO:MSOP-8_3x3mm_P0.65mm; Supplier: https://ww1.microchip.com/downloads/en/DeviceDoc/MIC2025-2075-Single-Channel-Power-Distribution-Switch-DS20006030A.pdf
footprint MSOP-8_3x3mm_P0.65mm
pins: 1 EN (in), 2 FLG (oc), 3 GND (power), 4 NC (in) hidden, 5 NC (in) hidden, 6 OUT hidden, 7 IN (power), 8 OUT (power)

## MIC2026-1BM
designator *  value MIC2026-1BM
ki_keywords: mosfet distribution; ki_description: Dual-channel, high side, power distribution switch, 2.7V-5.5V, Active High Output, SOIC-8; ki_fp_filters: SOIC*3.9x4.9mm*P1.27mm* DIP*W7.62mm*; Supplier: http://ww1.microchip.com/downloads/en/DeviceDoc/mic2026.pdf
pins: 1 ENA (in), 2 FLGA (out), 3 FLGB (out), 4 ENB (in), 5 OUTB (power), 6 GND (power), 7 IN (power), 8 OUTA (power)

## MIC2026-1BN
designator *  value MIC2026-1BN
ki_keywords: mosfet distribution; ki_description: Dual-channel, high side, power distribution switch, 2.7V-5.5V, Active High Output, DIP-8; ki_fp_filters: SOIC*3.9x4.9mm*P1.27mm* DIP*W7.62mm*; Supplier: http://ww1.microchip.com/downloads/en/DeviceDoc/mic2026.pdf
pins: 1 ENA (in), 2 FLGA (out), 3 FLGB (out), 4 ENB (in), 5 OUTB (power), 6 GND (power), 7 IN (power), 8 OUTA (power)

## MIC2026-2BM
designator *  value MIC2026-2BM
ki_keywords: mosfet distribution; ki_description: Dual-channel, high side, power distribution switch, 2.7V-5.5V, Active Low Output, SOIC-8; ki_fp_filters: SOIC*3.9x4.9mm*P1.27mm* DIP*W7.62mm*; Supplier: http://ww1.microchip.com/downloads/en/DeviceDoc/mic2026.pdf
pins: 1 ENA (in), 2 FLGA (out), 3 FLGB (out), 4 ENB (in), 5 OUTB (power), 6 GND (power), 7 IN (power), 8 OUTA (power)

## MIC2026-2BN
designator *  value MIC2026-2BN
ki_keywords: mosfet distribution; ki_description: Dual-channel, high side, power distribution switch, 2.7V-5.5V, Active Low Output, DIP-8; ki_fp_filters: SOIC*3.9x4.9mm*P1.27mm* DIP*W7.62mm*; Supplier: http://ww1.microchip.com/downloads/en/DeviceDoc/mic2026.pdf
pins: 1 ENA (in), 2 FLGA (out), 3 FLGB (out), 4 ENB (in), 5 OUTB (power), 6 GND (power), 7 IN (power), 8 OUTA (power)

## MIC2587-1
designator *  value MIC2587-1
ki_keywords: power switch FET driver; ki_description: Positive high voltage hot swap controller +10V to +80V with latched operation; ki_fp_filters: SOIC*3.9x4.9mm*P1.27mm*; Footprint: Package_SO:SOIC-8_3.9x4.9mm_P1.27mm; Supplier: http://ww1.microchip.com/downloads/en/DeviceDoc/mic2587-87r.pdf
footprint SOIC-8_3.9x4.9mm_P1.27mm
pins: 1 ON (in), 2 FB (in), 3 PWRGD (oc), 4 GND (power), 5 TIMER (in), 6 GATE (out), 7 Sense (in), 8 Vcc (power)

## MIC2587R-1
designator *  value MIC2587R-1
ki_keywords: power switch FET driver; ki_description: Positive high voltage hot swap controller +10V to +80V with auto-retry operation; ki_fp_filters: SOIC*3.9x4.9mm*P1.27mm*; Footprint: Package_SO:SOIC-8_3.9x4.9mm_P1.27mm; Supplier: http://ww1.microchip.com/downloads/en/DeviceDoc/mic2587-87r.pdf
footprint SOIC-8_3.9x4.9mm_P1.27mm
pins: 1 ON (in), 2 FB (in), 3 PWRGD (oc), 4 GND (power), 5 TIMER (in), 6 GATE (out), 7 Sense (in), 8 Vcc (power)

## NPC45560-H
designator *  value NPC45560-H
ki_keywords: load switch; ki_description: Controlled load switch with low Ron, DFN-12; ki_fp_filters: DFN*1EP?3x3mm?P0.5mm*; Footprint: Package_DFN_QFN:DFN-12-1EP_3x3mm_P0.5mm_EP2.05x2.86mm; Supplier: http://www.onsemi.com/pub/Collateral/NCP45560-D.PDF
footprint DFN-12-1EP_3x3mm_P0.5mm_EP2.05x2.86mm
pins: 1 VIN (power), 2 EN (in), 3 VCC (power), 4 GND (power), 5 SR (in), 6 PG (oc), 7 BLEED (in), 8 VOUT, 9 VOUT, 10 VOUT, 11 VOUT, 12 VOUT (power), 13 VIN (power)

## NPC45560-L
designator *  value NPC45560-L
ki_keywords: load switch; ki_description: Controlled load switch with low Ron, DFN-12; ki_fp_filters: *DFN*12*; Footprint: Package_DFN_QFN:DFN-12-1EP_3x3mm_P0.5mm_EP2.05x2.86mm; Supplier: http://www.onsemi.com/pub/Collateral/NCP45560-D.PDF
footprint DFN-12-1EP_3x3mm_P0.5mm_EP2.05x2.86mm
pins: 1 VIN (power), 2 EN (in), 3 VCC (power), 4 GND (power), 5 SR (in), 6 PG (oc), 7 BLEED (in), 8 VOUT, 9 VOUT, 10 VOUT, 11 VOUT, 12 VOUT (power), 13 VIN (power)

## PD70224
designator *  value PD70224
ki_keywords: dual ideal diode bridge; ki_description: Ideal Dual Diode Bridge, QFN-40; ki_fp_filters: Microsemi*QFN*6x8mm*P0.5mm*; Footprint: Package_DFN_QFN:Microsemi_QFN-40-32-2EP_6x8mm_P0.5mm; Supplier: https://www.microsemi.com/document-portal/doc_download/131677-pd70224-data-sheet
footprint Microsemi_QFN-40-32-2EP_6x8mm_P0.5mm
pins: 1 (power), 2 hidden, 3 hidden, 4 IN2B, 5 IN2B hidden, 6 IN2B hidden, 7 IN2B hidden, 8 (power), 9 hidden, 10 hidden, 11 IN2A, 12 IN2A hidden, 13 SUPP_SA (in), 14 SUPP_SB (in), 15 IN1A, 16 IN1A hidden, 17 hidden, 18 hidden, 19 hidden, 20 IN1B, 21 IN1B hidden, 22 IN1B hidden, 23 IN1B hidden, 24 hidden, 25 hidden, 26 hidden, 27 IN1A hidden, 28 IN1A hidden, 29 WA_EN (in), 30 NC (in) hidden, 31 IN2A hidden, 32 IN2A hidden, 33 hidden, 34 hidden

## RT9701
designator *  value RT9701
ki_keywords: power distribution switch; ki_description: 100 milliohm power distribution switch, SOT-23-5; ki_fp_filters: SOT?23*; Supplier: https://www.richtek.com/Products/Power%20Switch/RT9701?sc_lang=en
pins: 1 VOUT (power), 2 GND (power), 3 VIN (power), 4 VIN/EN (in), 5 VOUT hidden

## RT9742AGJ5F
designator *  value RT9742AGJ5F
ki_keywords: Power Switch; ki_description: 3A, Discharge, Active High EN, TSOT-23-5; ki_fp_filters: TSOT?23*; Footprint: Package_TO_SOT_SMD:TSOT-23-5; Supplier: https://www.richtek.com/assets/product_file/RT9742/DS9742-10.pdf
footprint TSOT-23-5
pins: 1 VOUT (power), 2 GND (power), 3 ~{{FLG}} (oc), 4 EN (in), 5 VIN (power)

## RT9742ANGJ5F
designator *  value RT9742ANGJ5F
ki_keywords: Power Switch; ki_description: 3A, Active High EN, TSOT-23-5; ki_fp_filters: TSOT?23*; Footprint: Package_TO_SOT_SMD:TSOT-23-5; Supplier: https://www.richtek.com/assets/product_file/RT9742/DS9742-10.pdf
footprint TSOT-23-5
pins: 1 VOUT (power), 2 GND (power), 3 ~{{FLG}} (oc), 4 EN (in), 5 VIN (power)

## RT9742BGJ5F
designator *  value RT9742BGJ5F
ki_keywords: Power Switch; ki_description: 3A, Discharge, Active Low EN, TSOT-23-5; ki_fp_filters: TSOT?23*; Footprint: Package_TO_SOT_SMD:TSOT-23-5; Supplier: https://www.richtek.com/assets/product_file/RT9742/DS9742-10.pdf
footprint TSOT-23-5
pins: 1 VOUT (power), 2 GND (power), 3 ~{{FLG}} (oc), 4 ~{{EN}} (in), 5 VIN (power)

## RT9742BNGJ5F
designator *  value RT9742BNGJ5F
ki_keywords: Power Switch; ki_description: 3A, Active Low EN, TSOT-23-5; ki_fp_filters: TSOT?23*; Footprint: Package_TO_SOT_SMD:TSOT-23-5; Supplier: https://www.richtek.com/assets/product_file/RT9742/DS9742-10.pdf
footprint TSOT-23-5
pins: 1 VOUT (power), 2 GND (power), 3 ~{{FLG}} (oc), 4 ~{{EN}} (in), 5 VIN (power)

## SiP32431DR3
designator *  value SiP32431DR3
ki_keywords: Load switch; ki_description: 10 pA, Ultra Low Leakage and Quiescent Current, Load Switch with Reverse Blocking, High Enable, SC-70-6; ki_fp_filters: *SC?70*; Footprint: Package_TO_SOT_SMD:SOT-363_SC-70-6; Supplier: http://www.vishay.com.hk/docs/66597/sip32431.pdf
footprint SOT-363_SC-70-6
pins: 1 OUT, 2 GND (power), 3 ON (in), 4 IN, 5 GND hidden, 6 NC (in) hidden

## SiP32432DR3
designator *  value SiP32432DR3
ki_keywords: Load switch; ki_description: 10 pA, Ultra Low Leakage and Quiescent Current, Load Switch with Reverse Blocking, Low Enable, SC-70-6; ki_fp_filters: *SC?70*; Footprint: Package_TO_SOT_SMD:SOT-363_SC-70-6; Supplier: http://www.vishay.com.hk/docs/66597/sip32431.pdf
footprint SOT-363_SC-70-6
pins: 1 OUT, 2 GND (power), 3 ~{{ON}} (in), 4 IN, 5 GND hidden, 6 NC (in) hidden

## SN6505ADBV
designator *  value SN6505ADBV
ki_keywords: Transformer Drivers; ki_description: Low Noise, 1A, Transformer Drivers for Isolated Power Supplies, 160 kHz, SOT-23-6; ki_fp_filters: SOT?23*; Footprint: Package_TO_SOT_SMD:SOT-23-6; Supplier: http://www.ti.com/lit/ds/symlink/sn6505b.pdf
footprint SOT-23-6
pins: 1 D1 (oc), 2 VCC (power), 3 D2 (oc), 4 GND (power), 5 EN (in), 6 CLK (in)

## SN6505BDBV
designator *  value SN6505BDBV
ki_keywords: Transformer Drivers; ki_description: Low Noise, 1A, Transformer Drivers for Isolated Power Supplies, 420 kHz, SOT-23-6; ki_fp_filters: SOT?23*; Footprint: Package_TO_SOT_SMD:SOT-23-6; Supplier: http://www.ti.com/lit/ds/symlink/sn6505b.pdf
footprint SOT-23-6
pins: 1 D1 (oc), 2 VCC (power), 3 D2 (oc), 4 GND (power), 5 EN (in), 6 CLK (in)

## STM6600
designator *  value STM6600
ki_keywords: push-button-controller low-power; ki_description: Smart push-button on/off controller, power-on lockout, Low Power, 1.6-5.5V, TDFN12; ki_fp_filters: TDFN*2x3mm*P0.5mm*; Footprint: Package_DFN_QFN:TDFN-12_2x3mm_P0.5mm; Supplier: http://www.st.com/resource/en/datasheet/stm6600.pdf
footprint TDFN-12_2x3mm_P0.5mm
pins: 1 Vcc (power), 2 ~{{SR}} (in), 3 Vref (out), 4 PS_HOLD (in), 5 C_SRD (in), 6 ~{{PB}} (in), 7 ~{{VCC}_LO} (oc), 8 ~{{PB}_OUT} (oc), 9 ~{{EN}/EN} (out), 10 ~{{RST}} (oc), 11 ~{{INT}} (oc), 12 GND (power)

## STM6601
designator *  value STM6601
ki_keywords: push-button-controller low-power; ki_description: Smart push-button on/off controller, power-on lockout, Low Power, 1.6-5.5V, TDFN12; ki_fp_filters: TDFN*2x3mm*P0.5mm*; Footprint: Package_DFN_QFN:TDFN-12_2x3mm_P0.5mm; Supplier: http://www.st.com/resource/en/datasheet/stm6600.pdf
footprint TDFN-12_2x3mm_P0.5mm
pins: 1 Vcc (power), 2 ~{{SR}} (in), 3 Vref (out), 4 PS_HOLD (in), 5 C_SRD (in), 6 ~{{PB}} (in), 7 ~{{VCC}_LO} (oc), 8 ~{{PB}_OUT} (oc), 9 ~{{EN}/EN} (out), 10 ~{{RST}} (oc), 11 ~{{INT}} (oc), 12 GND (power)

## TEA1708T
designator *  value TEA1708T
ki_keywords: X capacitor discharge; ki_description: GreenChip X capacitor discharge IC, SOIC-8; ki_fp_filters: SOIC*3.9x4.9mm*P1.27mm*; Footprint: Package_SO:SOIC-8_3.9x4.9mm_P1.27mm; Supplier: https://www.nxp.com/docs/en/data-sheet/TEA1708T.pdf
footprint SOIC-8_3.9x4.9mm_P1.27mm
pins: 1 NC (in) hidden, 2 TMR2, 3 NC (in) hidden, 4 TMR1, 5 HV2, 6 NC (in) hidden, 7 NC (in) hidden, 8 HV1

## TLE8102SG
designator *  value TLE8102SG
ki_keywords: Low_Side_Switch Power; ki_description: Smart Dual Channel Powertrain Switch 2x8A (max 360mOhm); ki_fp_filters: *PG?DSO*; Footprint: Package_SO:Infineon_PG-DSO-12-11_ThermalVias; Supplier: http://www.infineon.com/dgdl/Infineon-TLE8102SG-DS-v01_05-en.pdf?fileId=db3a304319c6f18c0119c8384bf90042
footprint Infineon_PG-DSO-12-11_ThermalVias
pins: 1 IN2 (in), 2 MOSI (in), 3 OUT2 (oc), 4 ISx/ST1/Fault, 5 SCLK (in), 6 GND hidden, 7 IN1 (in), 8 ~{{CS}} (in), 9 OUT1 (oc), 10 VDD (power), 11 MISO/ST2, 12 GND (power), 13 GND hidden

## TLE8104E
designator *  value TLE8104E
ki_keywords: Low_Side_Switch Power; ki_description: Smart Quad Channel Powertrain Switch 4x3A (In=1A, Ilim=3A, Ron=320mOhm); ki_fp_filters: *PG?DSO*; Footprint: Package_SO:Infineon_PG-DSO-20-30_ThermalVias; Supplier: http://www.infineon.com/dgdl/Infineon-TLE8104E-DS-v01_04-en.pdf?fileId=db3a304318f3fe2901190401cfda7f25
footprint Infineon_PG-DSO-20-30_ThermalVias
pins: 1 GND (power), 2 IN2 (in), 3 OUT1 (oc), 4 VS (power), 5 ~{{RST}} (in), 6 ~{{CS}} (in), 7 PRG (in), 8 OUT2 (oc), 9 IN1 (in), 10 GND hidden, 11 GND hidden, 12 IN4 (in), 13 OUT3 (oc), 14 ~{{FAULT}} (out), 15 MISO, 16 SCLK (in), 17 MOSI (in), 18 OUT4 (oc), 19 IN3 (in), 20 GND hidden, 21 GND hidden

## TPS2041B
designator *  value TPS2041B
ki_keywords: 1-chanel power-distribution USB; ki_description: Single power-distribution switcher; ki_fp_filters: SOT?23*; Footprint: Package_TO_SOT_SMD:SOT-23-5; Supplier: http://www.ti.com/lit/ds/symlink/tps2041.pdf
footprint SOT-23-5
pins: 1 OUT (power), 2 GND (power), 3 ~{{OC}} (oc), 4 ~{{EN}} (in), 5 IN (power)

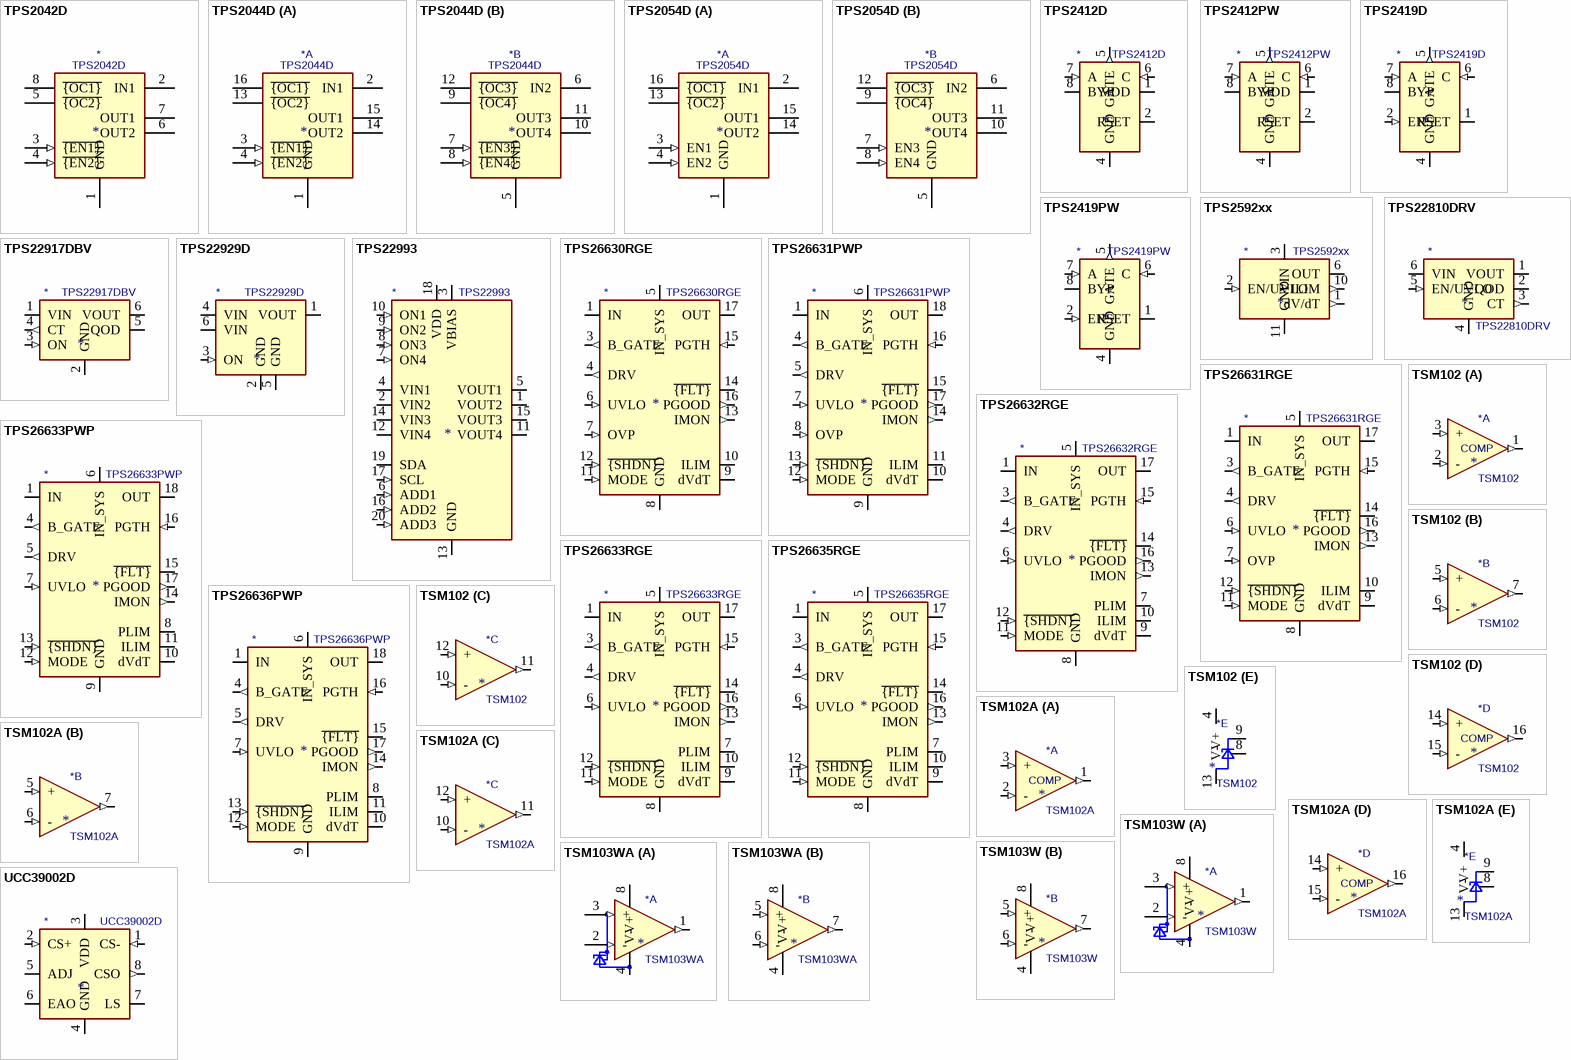
[diagram p5: symbols TPS2042D to UCC39002D]

## TPS2042D
designator *  value TPS2042D
ki_keywords: 2-chanel power-distribution USB; ki_description: Dual power-distribution switcher; ki_fp_filters: SOIC*3.9x4.9mm*1.27mm*; Footprint: Package_SO:SOIC-8_3.9x4.9mm_P1.27mm; Supplier: http://www.ti.com/lit/ds/symlink/tps2042.pdf
footprint SOIC-8_3.9x4.9mm_P1.27mm
pins: 1 GND (power), 2 IN1 (power), 3 ~{{EN1}} (in), 4 ~{{EN2}} (in), 5 ~{{OC2}} (oc), 6 OUT2 (power), 7 OUT1 (power), 8 ~{{OC1}} (oc)

## TPS2044D
designator *  value TPS2044D
ki_keywords: 4-chanel power-distribution USB; ki_description: Quad power-distribution switcher; ki_fp_filters: SOIC*3.9x9.9mm*1.27mm*; Footprint: Package_SO:SOIC-16_3.9x9.9mm_P1.27mm; Supplier: http://www.ti.com/lit/ds/symlink/tps2044.pdf
footprint SOIC-16_3.9x9.9mm_P1.27mm
part A pins: 1 GND (power), 2 IN1 (power), 3 ~{{EN1}} (in), 4 ~{{EN2}} (in), 13 ~{{OC2}} (oc), 14 OUT2 (power), 15 OUT1 (power), 16 ~{{OC1}} (oc)
part B pins: 5 GND (power), 6 IN2 (power), 7 ~{{EN3}} (in), 8 ~{{EN4}} (in), 9 ~{{OC4}} (oc), 10 OUT4 (power), 11 OUT3 (power), 12 ~{{OC3}} (oc)

## TPS2054D
designator *  value TPS2054D
ki_keywords: 4-chanel power-distribution USB; ki_description: Quad power-distribution switcher; ki_fp_filters: SOIC*3.9x9.9mm*1.27mm*; Footprint: Package_SO:SOIC-16_3.9x9.9mm_P1.27mm; Supplier: http://www.ti.com/lit/ds/symlink/tps2044.pdf
footprint SOIC-16_3.9x9.9mm_P1.27mm
part A pins: 1 GND (power), 2 IN1, 3 EN1 (in), 4 EN2 (in), 13 ~{{OC2}} (oc), 14 OUT2, 15 OUT1, 16 ~{{OC1}} (oc)
part B pins: 5 GND (power), 6 IN2, 7 EN3 (in), 8 EN4 (in), 9 ~{{OC4}} (oc), 10 OUT4, 11 OUT3, 12 ~{{OC3}} (oc)

## TPS2412D
designator *  value TPS2412D
ki_keywords: ideal-diode or-ing; ki_description: N+1 and ORing Power Rail Controller, SOIC-8; ki_fp_filters: TSSOP*4.4x3mm*P0.65mm* SOIC*3.9x4.9mm*P1.27mm*; Supplier: http://www.ti.com/lit/ds/symlink/tps2412.pdf
pins: 1 VDD (power), 2 RSET, 3 GND hidden, 4 GND (power), 5 GATE (out), 6 C (in), 7 A (in), 8 BYP

## TPS2412PW
designator *  value TPS2412PW
ki_keywords: ideal-diode or-ing; ki_description: N+1 and ORing Power Rail Controller, TSSOP-8; ki_fp_filters: TSSOP*4.4x3mm*P0.65mm* SOIC*3.9x4.9mm*P1.27mm*; Supplier: http://www.ti.com/lit/ds/symlink/tps2412.pdf
pins: 1 VDD (power), 2 RSET, 3 GND hidden, 4 GND (power), 5 GATE (out), 6 C (in), 7 A (in), 8 BYP

## TPS2419D
designator *  value TPS2419D
ki_keywords: ideal-diode or-ing; ki_description: N+1 and ORing Power Rail Controller with Enable, SOIC-8; ki_fp_filters: TSSOP*4.4x3mm*P0.65mm* SOIC*3.9x4.9mm*P1.27mm*; Supplier: http://www.ti.com/lit/ds/symlink/tps2419.pdf
pins: 1 RSET, 2 EN (in), 3 GND hidden, 4 GND (power), 5 GATE (out), 6 C (in), 7 A (in), 8 BYP

## TPS2419PW
designator *  value TPS2419PW
ki_keywords: ideal-diode or-ing; ki_description: N+1 and ORing Power Rail Controller with Enable, TSSOP-8; ki_fp_filters: TSSOP*4.4x3mm*P0.65mm* SOIC*3.9x4.9mm*P1.27mm*; Supplier: http://www.ti.com/lit/ds/symlink/tps2419.pdf
pins: 1 RSET, 2 EN (in), 3 GND hidden, 4 GND (power), 5 GATE (out), 6 C (in), 7 A (in), 8 BYP

## TPS2592xx
designator *  value TPS2592xx
ki_keywords: efuse protection switch; ki_description: 5V/12V eFuse Protection Switch (VSON-10); ki_fp_filters: VSON*1EP*3x3mm*P0.5mm*; Footprint: Package_SON:VSON-10-1EP_3x3mm_P0.5mm_EP1.65x2.4mm_ThermalVias; Supplier: http://www.ti.com/lit/ds/symlink/tps25925.pdf
footprint VSON-10-1EP_3x3mm_P0.5mm_EP1.65x2.4mm_ThermalVias
pins: 1 dV/dT (out), 2 EN/UVLO (in), 3 VIN (power), 4 VIN hidden, 5 VIN hidden, 6 OUT (power), 7 OUT hidden, 8 OUT hidden, 9 NC (in) hidden, 10 ILIM (out), 11 GND (power)

## TPS22810DRV
designator *  value TPS22810DRV
ki_keywords: load switch thermal protection; ki_description: 2.7-18V, 79mohms On-Resistance Load Switch With Thermal Protection, WSON-6; ki_fp_filters: WSON*1EP*2x2mm*P0.65mm*; Footprint: Package_SON:WSON-6-1EP_2x2mm_P0.65mm_EP1x1.6mm; Supplier: http://www.ti.com/lit/ds/symlink/tps22810.pdf
footprint WSON-6-1EP_2x2mm_P0.65mm_EP1x1.6mm
pins: 1 VOUT (power), 2 QOD (oc), 3 CT (out), 4 GND (power), 5 EN/UVLO (in), 6 VIN (power), 7 GND hidden

## TPS22917DBV
designator *  value TPS22917DBV
ki_keywords: high-side power distribution switch; ki_description: 1V to 5.5V, 2A, 80mΩ Ultra-Low Leakage Load Switch, SOT23-6; ki_fp_filters: SOT?23*; Footprint: Package_TO_SOT_SMD:SOT-23-6; Supplier: http://www.ti.com/lit/ds/symlink/tps22917.pdf
footprint SOT-23-6
pins: 1 VIN (power), 2 GND (power), 3 ON (in), 4 CT (out), 5 QOD (oc), 6 VOUT (power)

## TPS22929D
designator *  value TPS22929D
ki_keywords: high-side power distribution switch; ki_description: High side, power distribution switch, 1.4V-5.5V, 1.8A, SOT23-6 package; ki_fp_filters: SOT?23*; Footprint: Package_TO_SOT_SMD:SOT-23-6; Supplier: http://www.ti.com/lit/ds/symlink/tps22929d.pdf
footprint SOT-23-6
pins: 1 VOUT (power), 2 GND (power), 3 ON (in), 4 VIN (power), 5 GND (power), 6 VIN (power)

## TPS22993
designator *  value TPS22993
ki_keywords: quad channel power distribution/load switch; ki_description: Quad Channel Load Switch with GPIO and I2C Control, Bias voltage: 4.5V-17.2V, Input voltage: 1.0V-3.6V, Max 1.2A per channel, WQFN-20; ki_fp_filters: Texas*PWQFN*; Footprint: Package_DFN_QFN:Texas_S-PWQFN-N20; Supplier: http://www.ti.com/lit/gpn/tps22993
footprint Texas_S-PWQFN-N20
pins: 1 VOUT2, 2 VIN2, 3 VBIAS (power), 4 VIN1, 5 VOUT1, 6 ADD1 (in), 7 ON4 (in), 8 ON3 (in), 9 ON2 (in), 10 ON1 (in), 11 VOUT4, 12 VIN4, 13 GND (power), 14 VIN3, 15 VOUT3, 16 ADD2 (in), 17 SCL (in), 18 VDD (power), 19 SDA (io), 20 ADD3 (in)